# Altium footprint library Resistors.PcbLib: 9 footprints
Each footprint in its own frame and in the unit in brackets; x right, y up, seen from the top. Pads: shape width x height; smd on the part's side, far side on the other; paste and mask are expansions set on the pad; w line width, h text height; cw(c..) or ccw(c..) is an arc to the next point about the centre after c.
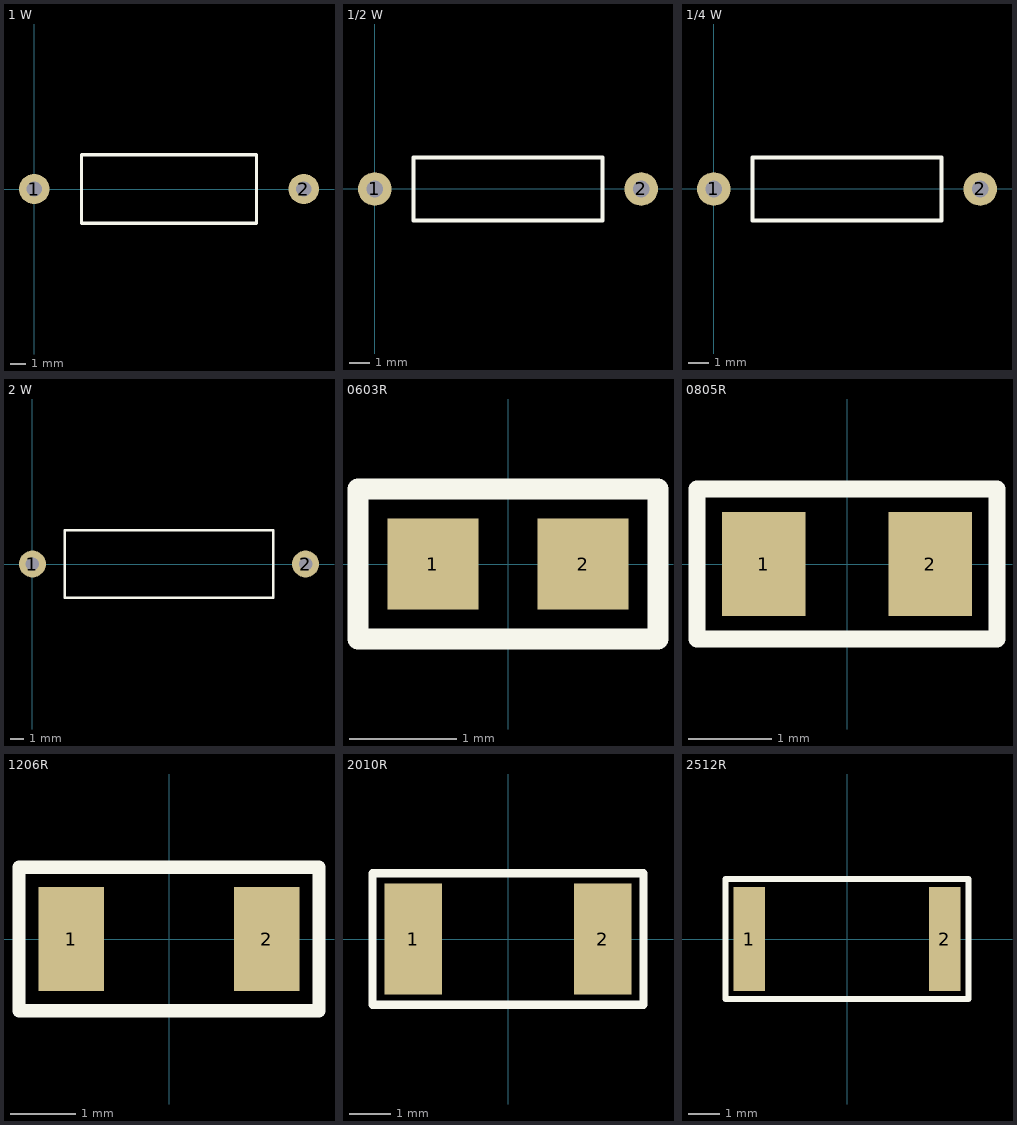
[diagram p0: the footprints below, top view; thin cyan lines are the x and y axes]

## 1 W [mm]
pads (2):
  round 2 hole 1: 1(0,0) 2(17.7,0)
Top Overlay:
  lines w0.2: 3.1,-2.25 3.1,2.25 14.6,2.25 14.6,-2.25 3.1,-2.25
3D body "User Library-Res70 1W SilCoat.STEP": height 4.77, standoff -1.75, extent -0.4,-2.25 18.13,2.25

## 1/2 W [mm]
pads (2):
  round 1.6 hole 0.8: 1(0,0) 2(12.7,0)
Top Overlay:
  lines w0.2: 1.85,-1.5 10.85,-1.5 10.85,1.5 1.85,1.5 1.85,-1.5
3D body "User Library-Res50 0_5W SilCoat.STEP": height 3.57, standoff -1.75, extent -0.35,-1.65 13.05,1.65

## 1/4 W [mm]
pads (2):
  round 1.6 hole 0.8: 1(0,0) 2(12.7,0)
Top Overlay:
  lines w0.2: 1.85,-1.5 1.85,1.5 10.85,1.5 10.85,-1.5 1.85,-1.5
3D body "User Library-Res50 0_25W SilCoat.STEP": height 2.41, standoff -2, extent -0.3,-1.2 13,1.2

## 2 W [mm]
pads (2):
  round 2 hole 1: 1(0,0) 2(20.3,0)
Top Overlay:
  lines w0.2: 2.4,-2.5 2.4,2.5 17.9,2.5 17.9,-2.5 2.4,-2.5
3D body "User Library-Res80 2W SilCoat.STEP": height 5.77, standoff -1.5, extent -0.4,-2.75 20.73,2.75

## 0603R [mm]
height 0.45
pads (2):
  rect 0.85x0.85 smd: 1(-0.7,0) 2(0.7,0)
Top Overlay:
  lines w0.2: -1.4,-0.7 -1.4,0.7 1.4,0.7 1.4,-0.7 -1.4,-0.7
3D body "0603.step": height 0.55, standoff 0, extent -0.875,-0.475 0.875,0.475

## 0805R [mm]
height 0.45
pads (2):
  rect 1x1.25 smd: 1(-1,0) 2(1,0)
Top Overlay:
  lines w0.2: -1.8,-0.9 -1.8,0.9 1.8,0.9 1.8,-0.9 -1.8,-0.9
3D body "0805.step": height 0.7, standoff 0, extent -1.1,-0.675 1.1,0.675

## 1206R [mm]
height 0.6
pads (2):
  rect 1x1.6 smd: 1(-1.5,0) 2(1.5,0)
Top Overlay:
  lines w0.2: -2.3,-1.1 2.3,-1.1 2.3,1.1 -2.3,1.1 -2.3,-1.1
3D body "1206.step": height 0.7, standoff 0, extent -1.625,-0.825 1.625,0.825

## 2010R [mm]
height 0.55
pads (2):
  rect 1.4x2.7 smd: 1(-2.3,0) 2(2.3,0)
Top Overlay:
  lines w0.2: -3.3,-1.6 -3.3,1.6 3.3,1.6 3.3,-1.6 -3.3,-1.6
3D body "2010.step": height 0.7, standoff 0, extent -2.6,-1.35 2.6,1.35

## 2512R [mm]
height 0.55
pads (2):
  rect 1x3.3 smd: 1(-3.1,0) 2(3.1,0)
Top Overlay:
  lines w0.2: -3.85,-1.9 -3.85,1.9 3.85,1.9 3.85,-1.9 -3.85,-1.9
3D body "2512.step": height 0.7, standoff 0, extent -3.3,-1.7 3.3,1.7